# Altium footprint library MLACHT_Z.PCBLIB: 150 footprints (part 8 of 10)
Each footprint in its own frame and in the unit in brackets; x right, y up, seen from the top. Pads: shape width x height; smd on the part's side, far side on the other; paste and mask are expansions set on the pad; w line width, h text height; cw(c..) or ccw(c..) is an arc to the next point about the centre after c.
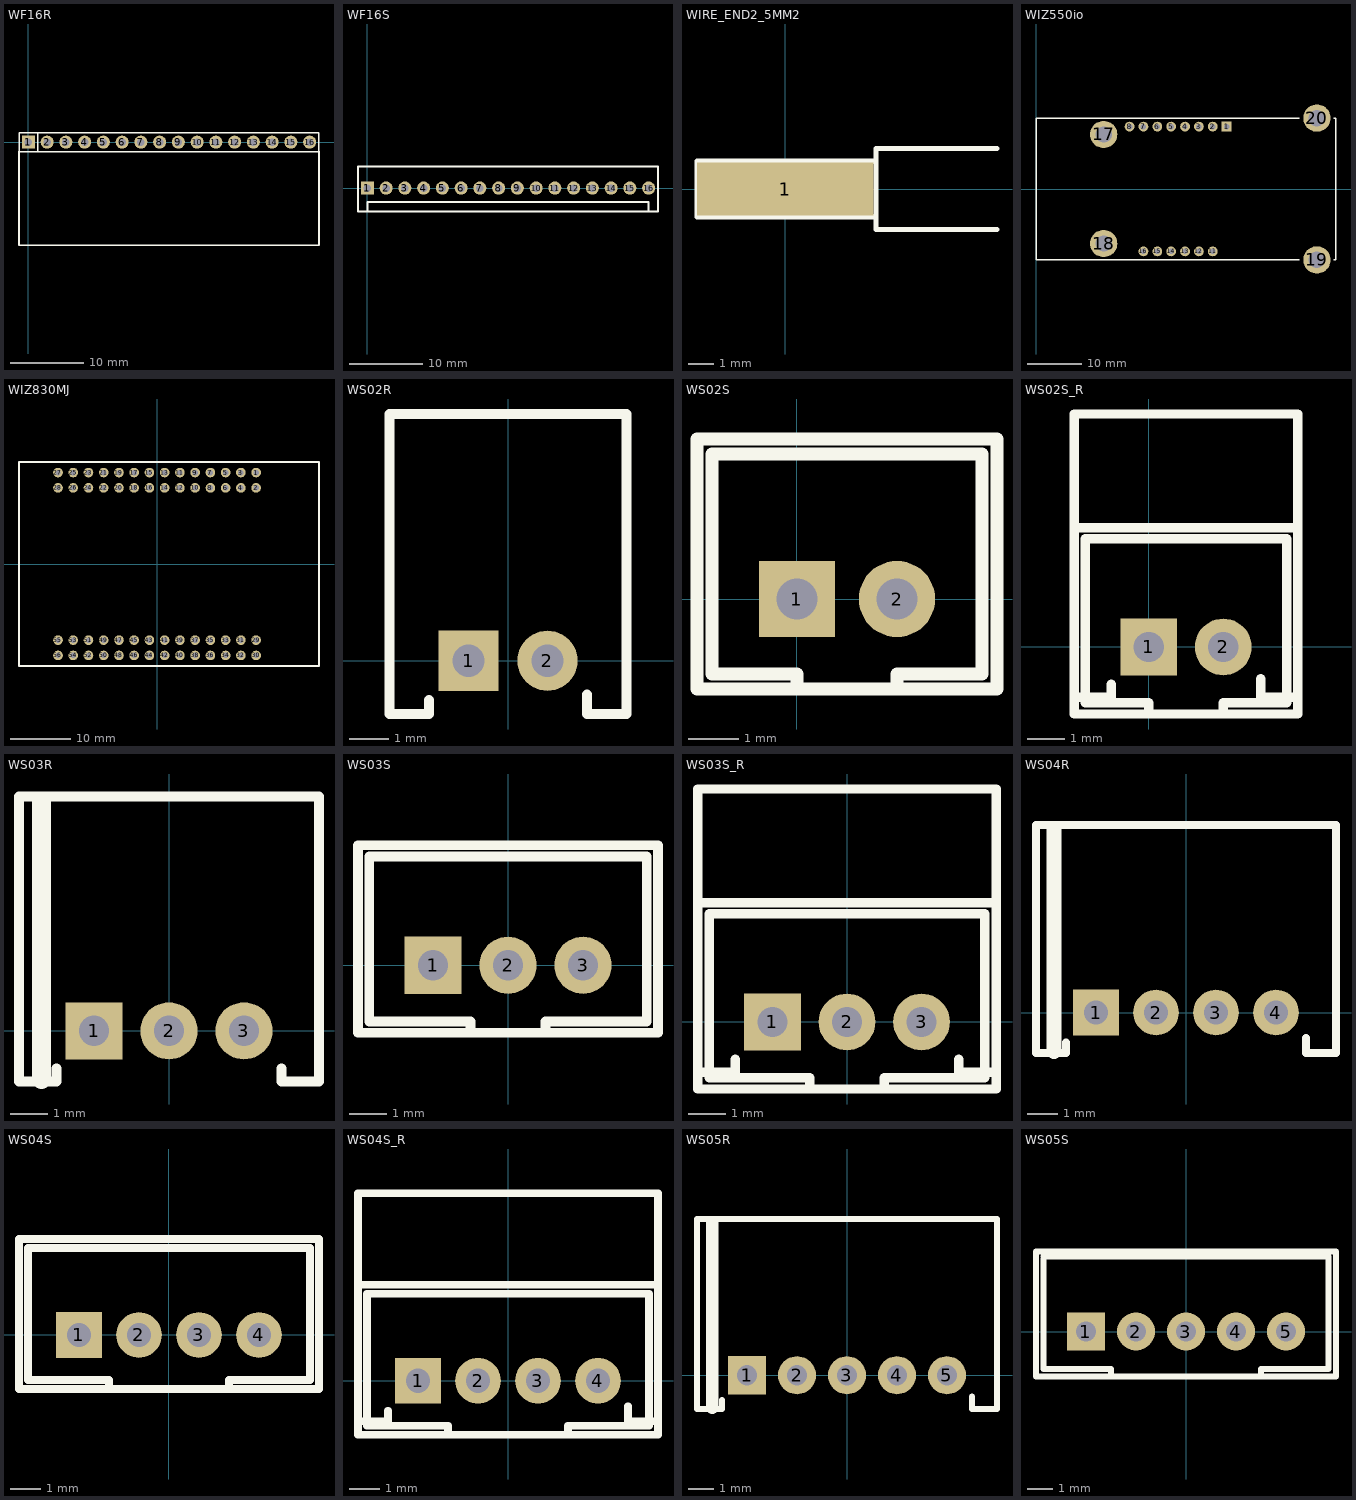
[diagram p7: the footprints below, top view; thin cyan lines are the x and y axes]

## WF16R [mil]
pads (16):
  rect 70x70 hole 40: 1(0,0)
  round 70 hole 40: 2(100,0) 3(200,0) 4(300,0) 5(400,0) 6(500,0) 7(600,0) 8(700,0) 9(800,0) 10(900,0) 11(1000,0) 12(1100,0) 13(1200,0) 14(1300,0) 15(1400,0) 16(1500,0)
TopOverlay:
  lines w8: 50,-50 50,50 ; -50,-50 -50,50 1550,50 1550,-50 -50,-50
  lines w10: -50,-50 -50,-550 1550,-550 1550,-50

## WF16S [mil]
pads (16):
  rect 70x70 hole 40: 1(0,0)
  round 70 hole 40: 2(100,0) 3(200,0) 4(300,0) 5(400,0) 6(500,0) 7(600,0) 8(700,0) 9(800,0) 10(900,0) 11(1000,0) 12(1100,0) 13(1200,0) 14(1300,0) 15(1400,0) 16(1500,0)
TopOverlay:
  lines w10: 0,-125 0,-75 1500,-75 1500,-125 ; -50,-125 -50,115 1550,115 1550,-125 -50,-125

## WIRE_END2_5MM2 [mm]
pads (1):
  rect 7x2.1 smd: 1(0,0)
TopOverlay:
  lines w0.2: 3.5,-1.1 -3.5,-1.1 -3.5,1.1 3.5,1.1 ; 8.4,-1.6 3.6,-1.6 3.6,1.6 8.4,1.6
3D body: height 2.49, standoff -0.5, extent 3.6,-1.5 8.6,1.494
3D body: height 1.99, standoff 0, extent -3.5,-1 3.5,0.996

## WIZ550io [mm]
pads (18):
  rect 1.8x1.8 hole 1: 1(34.94,11.43)
  round 1.8 hole 1: 2(32.4,11.43) 3(29.86,11.43) 4(27.32,11.43) 5(24.78,11.43) 6(22.24,11.43) 7(19.7,11.43) 8(17.16,11.43) 11(32.4,-11.43) 12(29.86,-11.43) 13(27.32,-11.43) 14(24.78,-11.43) 15(22.24,-11.43) 16(19.7,-11.43)
  round 5 hole 3: 17(12.4,10) 18(12.4,-10) 19(51.5,-13) 20(51.5,13)
TopOverlay:
  lines w0.25: 48.3,-13 0,-13 0,13 48.3,13 ; 54.6,-13 55,-13 55,13 54.6,13

## WIZ830MJ [mm]
pads (56):
  round 1.6 hole 0.9: 1(16.51,15.24) 2(16.51,12.7) 3(13.97,15.24) 4(13.97,12.7) 5(11.43,15.24) 6(11.43,12.7) 7(8.89,15.24) 8(8.89,12.7) 9(6.35,15.24) 10(6.35,12.7) 11(3.81,15.24) 12(3.81,12.7) 13(1.27,15.24) 14(1.27,12.7) 15(-1.27,15.24) 16(-1.27,12.7) 17(-3.81,15.24) 18(-3.81,12.7) 19(-6.35,15.24) 20(-6.35,12.7) 21(-8.89,15.24) 22(-8.89,12.7) 23(-11.43,15.24) 24(-11.43,12.7) 25(-13.97,15.24) 26(-13.97,12.7) 27(-16.51,15.24) 28(-16.51,12.7) 29(16.51,-12.7) 30(16.51,-15.24) 31(13.97,-12.7) 32(13.97,-15.24) 33(11.43,-12.7) 34(11.43,-15.24) 35(8.89,-12.7) 36(8.89,-15.24) 37(6.35,-12.7) 38(6.35,-15.24) 39(3.81,-12.7) 40(3.81,-15.24) 41(1.27,-12.7) 42(1.27,-15.24) 43(-1.27,-12.7) 44(-1.27,-15.24) 45(-3.81,-12.7) 46(-3.81,-15.24) 47(-6.35,-12.7) 48(-6.35,-15.24) 49(-8.89,-12.7) 50(-8.89,-15.24) 51(-11.43,-12.7) 52(-11.43,-15.24) 53(-13.97,-12.7) 54(-13.97,-15.24) 55(-16.51,-12.7) 56(-16.51,-15.24)
TopOverlay:
  lines w0.3: -23.01,-17 26.99,-17 26.99,17 -23.01,17 -23.01,-17
3D body: height 18, standoff 4.5, extent 10,-7.95 28.5,7.95
3D body: height 4.5, standoff 3, extent -23.01,-17 26.99,17
3D body: height 5, standoff -3, extent 16.01,14.74 17.006,15.738
3D body: height 5, standoff -3, extent 16.01,12.2 17.006,13.198
3D body: height 5, standoff -3, extent 13.47,14.74 14.466,15.738
3D body: height 5, standoff -3, extent 13.47,12.2 14.466,13.198
3D body: height 5, standoff -3, extent 10.93,14.74 11.926,15.738
3D body: height 5, standoff -3, extent 10.93,12.2 11.926,13.198
3D body: height 5, standoff -3, extent 8.39,14.74 9.386,15.738
3D body: height 5, standoff -3, extent 8.39,12.2 9.386,13.198
3D body: height 5, standoff -3, extent 5.85,14.74 6.846,15.738
3D body: height 5, standoff -3, extent 5.85,12.2 6.846,13.198
3D body: height 5, standoff -3, extent 3.31,14.74 4.306,15.738
3D body: height 5, standoff -3, extent 3.31,12.2 4.306,13.198
3D body: height 5, standoff -3, extent 0.77,14.74 1.766,15.738
3D body: height 5, standoff -3, extent 0.77,12.2 1.766,13.198
3D body: height 5, standoff -3, extent -1.77,14.74 -0.774,15.738
3D body: height 5, standoff -3, extent -1.77,12.2 -0.774,13.198
3D body: height 5, standoff -3, extent -4.31,14.74 -3.314,15.738
3D body: height 5, standoff -3, extent -4.31,12.2 -3.314,13.198
3D body: height 5, standoff -3, extent -6.85,14.74 -5.854,15.738
3D body: height 5, standoff -3, extent -6.85,12.2 -5.854,13.198
3D body: height 5, standoff -3, extent -9.39,14.74 -8.394,15.738
3D body: height 5, standoff -3, extent -9.39,12.2 -8.394,13.198
3D body: height 5, standoff -3, extent -11.93,14.74 -10.934,15.738
3D body: height 5, standoff -3, extent -11.93,12.2 -10.934,13.198
3D body: height 5, standoff -3, extent -14.47,14.74 -13.474,15.738
3D body: height 5, standoff -3, extent -14.47,12.2 -13.474,13.198
3D body: height 5, standoff -3, extent -17.01,14.74 -16.014,15.738
3D body: height 5, standoff -3, extent -17.01,12.2 -16.014,13.198
3D body: height 5, standoff -3, extent -17.01,-13.2 -16.014,-12.202
3D body: height 5, standoff -3, extent -17.01,-15.74 -16.014,-14.742
3D body: height 5, standoff -3, extent -14.47,-13.2 -13.474,-12.202
3D body: height 5, standoff -3, extent -14.47,-15.74 -13.474,-14.742
3D body: height 5, standoff -3, extent -11.93,-13.2 -10.934,-12.202
3D body: height 5, standoff -3, extent -11.93,-15.74 -10.934,-14.742
3D body: height 5, standoff -3, extent -9.39,-13.2 -8.394,-12.202
3D body: height 5, standoff -3, extent -9.39,-15.74 -8.394,-14.742
3D body: height 5, standoff -3, extent -6.85,-13.2 -5.854,-12.202
3D body: height 5, standoff -3, extent -6.85,-15.74 -5.854,-14.742
3D body: height 5, standoff -3, extent -4.31,-13.2 -3.314,-12.202
3D body: height 5, standoff -3, extent -4.31,-15.74 -3.314,-14.742
3D body: height 5, standoff -3, extent -1.77,-13.2 -0.774,-12.202
3D body: height 5, standoff -3, extent -1.77,-15.74 -0.774,-14.742
3D body: height 5, standoff -3, extent 0.77,-13.2 1.766,-12.202
3D body: height 5, standoff -3, extent 0.77,-15.74 1.766,-14.742
3D body: height 5, standoff -3, extent 3.31,-13.2 4.306,-12.202
3D body: height 5, standoff -3, extent 3.31,-15.74 4.306,-14.742
3D body: height 5, standoff -3, extent 5.85,-13.2 6.846,-12.202
3D body: height 5, standoff -3, extent 5.85,-15.74 6.846,-14.742
3D body: height 5, standoff -3, extent 8.39,-13.2 9.386,-12.202
3D body: height 5, standoff -3, extent 8.39,-15.74 9.386,-14.742
3D body: height 5, standoff -3, extent 10.93,-15.74 11.926,-14.742
3D body: height 5, standoff -3, extent 10.93,-13.2 11.926,-12.202
3D body: height 5, standoff -3, extent 13.47,-13.2 14.466,-12.202
3D body: height 5, standoff -3, extent 13.47,-15.74 14.466,-14.742
3D body: height 5, standoff -3, extent 16.01,-15.74 17.006,-14.742
3D body: height 5, standoff -3, extent 16.01,-13.2 17.006,-12.202

## WS02R [mil]
pads (2):
  rect 60x60 hole 32: 1(-39.37,0)
  round 60 hole 32: 2(39.37,0)
TopOverlay:
  lines w10: -78.74,-39.37 -78.74,-53.15 -118.11,-53.15 -118.11,246.06 118.11,246.06 118.11,-53.15 78.74,-53.15 78.74,-33.46
3D body: height 177.17, standoff 11.81, extent -118.11,9.84 118.11,72.83
3D body: height 118.11, standoff 0, extent 29.53,-9.84 49.21,9.84
3D body: height 118.11, standoff 98.43, extent 29.53,-9.84 49.21,232.28
3D body: height 118.11, standoff 0, extent -49.21,-9.84 -29.53,9.84
3D body: height 118.11, standoff 98.43, extent -49.21,-9.84 -29.53,232.28
3D body: height 11.81, standoff 0, extent -118.11,9.84 118.11,246.06
3D body: height 118.11, standoff 11.81, extent 78.74,-53.15 118.11,9.84
3D body: height 118.11, standoff 11.81, extent -118.11,-53.15 -78.74,9.84
3D body: height 177.17, standoff 11.81, extent 96.46,9.84 118.11,246.06
3D body: height 177.17, standoff 11.81, extent -118.11,9.84 -96.46,246.06
3D body: height 177.17, standoff 155.51, extent 21.65,7.87 118.11,244.09
3D body: height 177.17, standoff 155.51, extent -118.11,9.84 -21.65,246.06

## WS02S [mil]
pads (2):
  rect 60x60 hole 32: 1(0,0)
  round 60 hole 32: 2(78.74,0)
TopOverlay:
  lines w10: 0,-70.87 0,-59.05 -66.93,-59.05 -66.93,114.17 145.67,114.17 145.67,-59.05 78.74,-59.05 78.74,-70.87 ; -78.74,-70.87 157.48,-70.87 157.48,125.98 -78.74,125.98 -78.74,-70.87
3D body: height 78.74, standoff 0, extent -78.74,-70.87 157.48,125.98
3D body: height 236.22, standoff 0, extent -78.74,-70.87 157.48,125.98
3D body: height 228.35, standoff 0, extent -9.84,-9.84 9.84,9.84
3D body: height 228.35, standoff 0, extent 68.9,-9.84 88.58,9.84

## WS02S_R [mil]
pads (2):
  rect 60x60 hole 32: 1(0,0)
  round 60 hole 32: 2(78.74,0)
TopOverlay:
  lines w10: -39.37,-39.37 -39.37,-53.15 -78.74,-53.15 -78.74,246.06 157.48,246.06 157.48,-53.15 118.11,-53.15 118.11,-33.46 ; 0,-70.87 0,-59.05 -66.93,-59.05 -66.93,114.17 145.67,114.17 145.67,-59.05 78.74,-59.05 78.74,-70.87 ; -78.74,-70.87 -78.74,125.98 157.48,125.98 157.48,-70.87 -78.74,-70.87
3D body: height 228.35, standoff 0, extent 68.9,-9.84 88.58,9.84
3D body: height 228.35, standoff 0, extent -9.84,-9.84 9.84,9.84
3D body: height 236.22, standoff 0, extent -78.74,-70.87 157.48,125.98
3D body: height 78.74, standoff 0, extent -78.74,-70.87 157.48,125.98
3D body: height 177.17, standoff 155.51, extent -78.74,9.84 17.72,246.06
3D body: height 177.17, standoff 155.51, extent 61.02,7.87 157.48,244.09
3D body: height 177.17, standoff 11.81, extent -78.74,9.84 -57.09,246.06
3D body: height 177.17, standoff 11.81, extent 135.83,9.84 157.48,246.06
3D body: height 118.11, standoff 11.81, extent -78.74,-53.15 -39.37,9.84
3D body: height 118.11, standoff 11.81, extent 118.11,-53.15 157.48,9.84
3D body: height 11.81, standoff 0, extent -78.74,9.84 157.48,246.06
3D body: height 118.11, standoff 98.43, extent -9.84,-9.84 9.84,232.28
3D body: height 118.11, standoff 0, extent -9.84,-9.84 9.84,9.84
3D body: height 118.11, standoff 98.43, extent 68.9,-9.84 88.58,232.28
3D body: height 118.11, standoff 0, extent 68.9,-9.84 88.58,9.84
3D body: height 177.17, standoff 11.81, extent -78.74,9.84 157.48,72.83

## WS03R [mil]
pads (3):
  rect 60x60 hole 32: 1(-78.74,0)
  round 60 hole 32: 2(0,0) 3(78.74,0)
TopOverlay:
  lines w10: -118.11,-39.37 -118.11,-53.15 -157.48,-53.15 -157.48,246.06 157.48,246.06 157.48,-53.15 118.11,-53.15 118.11,-39.37
  lines w19.68: -133.86,-51.18 -133.86,240.16
3D body: height 177.17, standoff 155.51, extent 39.37,9.84 135.83,246.06
3D body: height 177.17, standoff 11.81, extent 135.83,9.84 157.48,246.06
3D body: height 118.11, standoff 11.81, extent 118.11,-53.15 157.48,9.84
3D body: height 177.17, standoff 11.81, extent -157.48,9.84 157.48,72.83
3D body: height 118.11, standoff 0, extent 68.9,-9.84 88.58,9.84
3D body: height 118.11, standoff 98.43, extent 68.9,-9.84 88.58,232.28
3D body: height 118.11, standoff 0, extent -9.84,-9.84 9.84,9.84
3D body: height 118.11, standoff 98.43, extent -9.84,-9.84 9.84,232.28
3D body: height 118.11, standoff 98.43, extent -88.58,-9.84 -68.9,232.28
3D body: height 118.11, standoff 0, extent -88.58,-9.84 -68.9,9.84
3D body: height 11.81, standoff 0, extent -157.48,9.84 157.48,246.06
3D body: height 118.11, standoff 11.81, extent -157.48,-53.15 -118.11,9.84
3D body: height 177.17, standoff 11.81, extent -157.48,9.84 -135.83,246.06
3D body: height 177.17, standoff 155.51, extent -135.83,9.84 -39.37,246.06

## WS03S [mil]
pads (3):
  rect 60x60 hole 32: 1(-78.74,0)
  round 60 hole 32: 2(0,0) 3(78.74,0)
TopOverlay:
  lines w10: -39.37,-70.87 -39.37,-59.05 -145.67,-59.05 -145.67,114.17 145.67,114.17 145.67,-59.05 39.37,-59.05 39.37,-70.87 ; -157.48,-70.87 -157.48,125.98 157.48,125.98 157.48,-70.87 -157.48,-70.87
3D body: height 228.35, standoff 0, extent 68.9,-9.84 88.58,9.84
3D body: height 228.35, standoff 0, extent -9.84,-9.84 9.84,9.84
3D body: height 228.35, standoff 0, extent -88.58,-9.84 -68.9,9.84
3D body: height 236.22, standoff 0, extent -157.48,-70.87 157.48,125.98
3D body: height 78.74, standoff 0, extent -157.48,-70.87 157.48,125.98

## WS03S_R [mil]
pads (3):
  rect 60x60 hole 32: 1(-78.74,0)
  round 60 hole 32: 2(0,0) 3(78.74,0)
TopOverlay:
  lines w10: -118.11,-39.37 -118.11,-53.15 -157.48,-53.15 -157.48,246.06 157.48,246.06 157.48,-53.15 118.11,-53.15 118.11,-39.37 ; -39.37,-70.87 -39.37,-59.05 -145.67,-59.05 -145.67,114.17 145.67,114.17 145.67,-59.05 39.37,-59.05 39.37,-70.87 ; -157.48,-70.87 157.48,-70.87 157.48,125.98 -157.48,125.98 -157.48,-70.87
3D body: height 177.17, standoff 155.51, extent 39.37,9.84 135.83,246.06
3D body: height 177.17, standoff 11.81, extent 135.83,9.84 157.48,246.06
3D body: height 118.11, standoff 11.81, extent 118.11,-53.15 157.48,9.84
3D body: height 177.17, standoff 11.81, extent -157.48,9.84 157.48,72.83
3D body: height 118.11, standoff 0, extent 68.9,-9.84 88.58,9.84
3D body: height 118.11, standoff 98.43, extent 68.9,-9.84 88.58,232.28
3D body: height 118.11, standoff 0, extent -9.84,-9.84 9.84,9.84
3D body: height 118.11, standoff 98.43, extent -9.84,-9.84 9.84,232.28
3D body: height 118.11, standoff 98.43, extent -88.58,-9.84 -68.9,232.28
3D body: height 118.11, standoff 0, extent -88.58,-9.84 -68.9,9.84
3D body: height 11.81, standoff 0, extent -157.48,9.84 157.48,246.06
3D body: height 118.11, standoff 11.81, extent -157.48,-53.15 -118.11,9.84
3D body: height 177.17, standoff 11.81, extent -157.48,9.84 -135.83,246.06
3D body: height 177.17, standoff 155.51, extent -135.83,9.84 -39.37,246.06
3D body: height 78.74, standoff 0, extent -157.48,-70.87 157.48,125.98
3D body: height 236.22, standoff 0, extent -157.48,-70.87 157.48,125.98
3D body: height 228.35, standoff 0, extent -88.58,-9.84 -68.9,9.84
3D body: height 228.35, standoff 0, extent -9.84,-9.84 9.84,9.84
3D body: height 228.35, standoff 0, extent 68.9,-9.84 88.58,9.84

## WS04R [mil]
pads (4):
  rect 60x60 hole 32: 1(-118.11,0)
  round 60 hole 32: 2(-39.37,0) 3(39.37,0) 4(118.11,0)
TopOverlay:
  lines w10: -157.48,-39.37 -157.48,-53.15 -196.85,-53.15 -196.85,246.06 196.85,246.06 196.85,-53.15 157.48,-53.15 157.48,-33.46
  lines w19.68: -173.23,-51.18 -173.23,240.16
3D body: height 177.17, standoff 155.51, extent -175.2,9.84 -78.74,246.06
3D body: height 177.17, standoff 155.51, extent 78.74,9.84 175.2,246.06
3D body: height 177.17, standoff 11.81, extent -196.85,9.84 -175.2,246.06
3D body: height 177.17, standoff 11.81, extent 175.2,9.84 196.85,246.06
3D body: height 118.11, standoff 11.81, extent -196.85,-53.15 -157.48,9.84
3D body: height 118.11, standoff 11.81, extent 157.48,-53.15 196.85,9.84
3D body: height 11.81, standoff 0, extent -196.85,9.84 196.85,246.06
3D body: height 118.11, standoff 0, extent -127.95,-9.84 -108.27,9.84
3D body: height 118.11, standoff 98.43, extent -127.95,-9.84 -108.27,232.28
3D body: height 118.11, standoff 98.43, extent -49.21,-9.84 -29.53,232.28
3D body: height 118.11, standoff 0, extent -49.21,-9.84 -29.53,9.84
3D body: height 118.11, standoff 98.43, extent 29.53,-9.84 49.21,232.28
3D body: height 118.11, standoff 0, extent 29.53,-9.84 49.21,9.84
3D body: height 118.11, standoff 98.43, extent 108.27,-9.84 127.95,232.28
3D body: height 118.11, standoff 0, extent 108.27,-9.84 127.95,9.84
3D body: height 177.17, standoff 11.81, extent -196.85,9.84 196.85,72.83

## WS04S [mil]
pads (4):
  rect 60x60 hole 32: 1(-118.11,0)
  round 60 hole 32: 2(-39.37,0) 3(39.37,0) 4(118.11,0)
TopOverlay:
  lines w10: -78.74,-70.87 -78.74,-59.05 -185.04,-59.05 -185.04,114.17 185.04,114.17 185.04,-59.05 78.74,-59.05 78.74,-70.87 ; -196.85,-70.87 -196.85,125.98 196.85,125.98 196.85,-70.87 -196.85,-70.87
3D body: height 228.35, standoff 0, extent 108.27,-9.84 127.95,9.84
3D body: height 228.35, standoff 0, extent 29.53,-9.84 49.21,9.84
3D body: height 228.35, standoff 0, extent -49.21,-9.84 -29.53,9.84
3D body: height 228.35, standoff 0, extent -127.95,-9.84 -108.27,9.84
3D body: height 236.22, standoff 0, extent -196.85,-70.87 196.85,125.98
3D body: height 78.74, standoff 0, extent -196.85,-70.87 196.85,125.98

## WS04S_R [mil]
pads (4):
  rect 60x60 hole 32: 1(-118.11,0)
  round 60 hole 32: 2(-39.37,0) 3(39.37,0) 4(118.11,0)
TopOverlay:
  lines w10: -157.48,-39.37 -157.48,-53.15 -196.85,-53.15 -196.85,246.06 196.85,246.06 196.85,-53.15 157.48,-53.15 157.48,-33.46 ; -78.74,-70.87 -78.74,-59.05 -185.04,-59.05 -185.04,114.17 185.04,114.17 185.04,-59.05 78.74,-59.05 78.74,-70.87 ; -196.85,-70.87 196.85,-70.87 196.85,125.98 -196.85,125.98 -196.85,-70.87
3D body: height 78.74, standoff 0, extent -196.85,-70.87 196.85,125.98
3D body: height 236.22, standoff 0, extent -196.85,-70.87 196.85,125.98
3D body: height 228.35, standoff 0, extent -127.95,-9.84 -108.27,9.84
3D body: height 228.35, standoff 0, extent -49.21,-9.84 -29.53,9.84
3D body: height 228.35, standoff 0, extent 29.53,-9.84 49.21,9.84
3D body: height 228.35, standoff 0, extent 108.27,-9.84 127.95,9.84
3D body: height 177.17, standoff 155.51, extent -175.2,9.84 -78.74,246.06
3D body: height 177.17, standoff 155.51, extent 78.74,9.84 175.2,246.06
3D body: height 177.17, standoff 11.81, extent -196.85,9.84 -175.2,246.06
3D body: height 177.17, standoff 11.81, extent 175.2,9.84 196.85,246.06
3D body: height 118.11, standoff 11.81, extent -196.85,-53.15 -157.48,9.84
3D body: height 118.11, standoff 11.81, extent 157.48,-53.15 196.85,9.84
3D body: height 11.81, standoff 0, extent -196.85,9.84 196.85,246.06
3D body: height 118.11, standoff 0, extent -127.95,-9.84 -108.27,9.84
3D body: height 118.11, standoff 98.43, extent -127.95,-9.84 -108.27,232.28
3D body: height 118.11, standoff 98.43, extent -49.21,-9.84 -29.53,232.28
3D body: height 118.11, standoff 0, extent -49.21,-9.84 -29.53,9.84
3D body: height 118.11, standoff 98.43, extent 29.53,-9.84 49.21,232.28
3D body: height 118.11, standoff 0, extent 29.53,-9.84 49.21,9.84
3D body: height 118.11, standoff 98.43, extent 108.27,-9.84 127.95,232.28
3D body: height 118.11, standoff 0, extent 108.27,-9.84 127.95,9.84
3D body: height 177.17, standoff 11.81, extent -196.85,9.84 196.85,72.83

## WS05R [mil]
pads (5):
  rect 60x60 hole 32: 1(-157.48,0)
  round 60 hole 32: 2(-78.74,0) 3(0,0) 4(78.74,0) 5(157.48,0)
TopOverlay:
  lines w10: -196.85,-39.37 -196.85,-53.15 -236.22,-53.15 -236.22,246.06 236.22,246.06 236.22,-53.15 196.85,-53.15 196.85,-33.46
  lines w19.68: -212.6,-51.18 -212.6,240.16
3D body: height 177.17, standoff 11.81, extent 214.57,9.84 236.22,246.06
3D body: height 118.11, standoff 0, extent 147.64,-9.84 167.32,9.84
3D body: height 118.11, standoff 98.43, extent 147.64,-9.84 167.32,232.28
3D body: height 118.11, standoff 11.81, extent 196.85,-53.15 236.22,9.84
3D body: height 177.17, standoff 155.51, extent -214.57,9.84 -118.11,246.06
3D body: height 177.17, standoff 155.51, extent 118.11,9.84 236.22,246.06
3D body: height 177.17, standoff 11.81, extent -236.22,9.84 -214.57,246.06
3D body: height 118.11, standoff 11.81, extent -236.22,-53.15 -196.85,9.84
3D body: height 11.81, standoff 0, extent -236.22,9.84 236.22,246.06
3D body: height 118.11, standoff 0, extent -167.32,-9.84 -147.64,9.84
3D body: height 118.11, standoff 98.43, extent -167.32,-9.84 -147.64,232.28
3D body: height 118.11, standoff 98.43, extent -88.58,-9.84 -68.9,232.28
3D body: height 118.11, standoff 0, extent -88.58,-9.84 -68.9,9.84
3D body: height 118.11, standoff 98.43, extent -9.84,-9.84 9.84,232.28
3D body: height 118.11, standoff 0, extent -9.84,-9.84 9.84,9.84
3D body: height 118.11, standoff 98.43, extent 68.9,-9.84 88.58,232.28
3D body: height 118.11, standoff 0, extent 68.9,-9.84 88.58,9.84
3D body: height 177.17, standoff 11.81, extent -236.22,9.84 236.22,72.83

## WS05S [mil]
pads (5):
  rect 60x60 hole 32: 1(-157.48,0)
  round 60 hole 32: 2(-78.74,0) 3(0,0) 4(78.74,0) 5(157.48,0)
TopOverlay:
  lines w10: -224.41,114.17 -224.41,-59.05 -118.11,-59.05 -118.11,-70.87 ; -224.41,118.11 224.41,118.11 224.41,-59.05 118.11,-59.05 118.11,-70.87 ; -236.22,-70.87 236.22,-70.87 236.22,125.98 -236.22,125.98 -236.22,-70.87
3D body: height 228.35, standoff 0, extent 147.64,-9.84 167.32,9.84
3D body: height 228.35, standoff 0, extent 68.9,-9.84 88.58,9.84
3D body: height 228.35, standoff 0, extent -9.84,-9.84 9.84,9.84
3D body: height 228.35, standoff 0, extent -88.58,-9.84 -68.9,9.84
3D body: height 228.35, standoff 0, extent -167.32,-9.84 -147.64,9.84
3D body: height 236.22, standoff 0, extent -236.22,-70.87 236.22,125.98
3D body: height 78.74, standoff 0, extent -236.22,-70.87 236.22,125.98